# EAGLE library part LT3504 (library ic-LT)
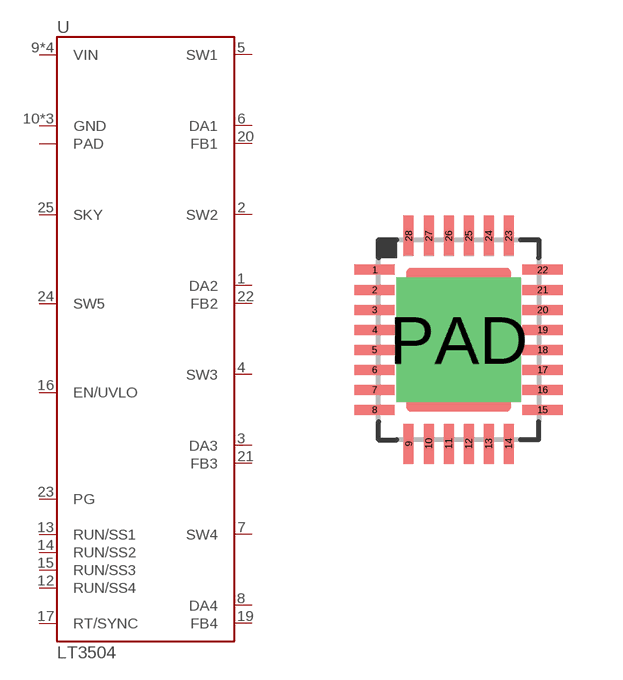
[diagram p0: symbol with the pads of QFN28-0.5; footprint QFN28-0.5]

Designator prefix U

## LT3504  [QFN28-0.5]
1  DA2
2  SW2
3  DA3
4  SW3
5  SW1
6  DA1
7  SW4
8  DA4
9  VIN
10  GND
11  VIN
12  RUN/SS4
13  RUN/SS1
14  RUN/SS2
15  RUN/SS3
16  EN/UVLO
17  RT/SYNC
18  GND
19  FB4
20  FB1
21  FB3
22  FB2
23  PG
24  SW5
25  SKY
26  VIN
27  GND
28  VIN
PAD  PAD

## Footprint QFN28-0.5 (pad centres in mm)
smd 1 x 0.25: 1 -2.1,1.75; 2 -2.1,1.25; 3 -2.1,0.75; 4 -2.1,0.25; 5 -2.1,-0.25; 6 -2.1,-0.75; 7 -2.1,-1.25; 8 -2.1,-1.75; 15 2.1,-1.75; 16 2.1,-1.25; 17 2.1,-0.75; 18 2.1,-0.25; 19 2.1,0.25; 20 2.1,0.75; 21 2.1,1.25; 22 2.1,1.75
smd 0.25 x 1: 9 -1.25,-2.6; 10 -0.75,-2.6; 11 -0.25,-2.6; 12 0.25,-2.6; 13 0.75,-2.6; 14 1.25,-2.6; 23 1.25,2.6; 24 0.75,2.6; 25 0.25,2.6; 26 -0.25,2.6; 27 -0.75,2.6; 28 -1.25,2.6
drill 2.1 pad 2.6 square: PAD 0,0